# Altium integrated library ABM3-16.000MHZ-D2Y-T.IntLib: 1 symbol
Pins are listed as number, name and electrical type; pins without a type are passive.

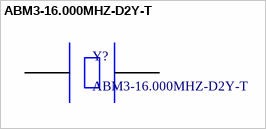
[diagram p0: symbol ABM3-16.000MHZ-D2Y-T]

## ABM3-16.000MHZ-D2Y-T
designator Y?
Crystal 16 MHz, Abracon corporation
footprint ABM3-16.000MHZ-D2Y-T (Crystal 16MHz)
pins: 1, 2